# Altium schematic symbol library Sch_Comunes.SchLib: 15 symbols
Pins are listed as number, name and electrical type; pins without a type are passive.

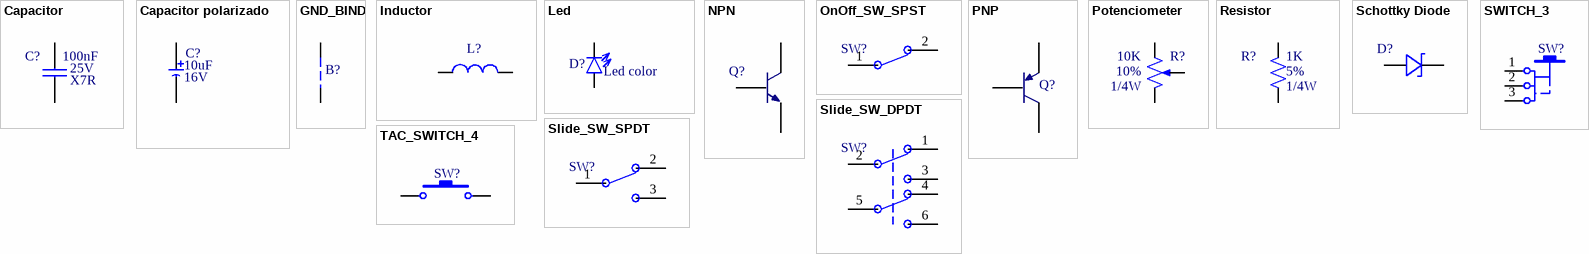
[diagram p0: symbols Capacitor to TAC_SWITCH_4]

## Capacitor
designator C?  Valor: 100nF  tension: 25V  tolerancia: X7R
Capacitor de placas paralelas; Encapsulado: 0805; Link: *; Fabricante: *
footprint C0603 (Capacitor SMD 0603)
footprint C1206 (Capacitor SMD 1206)
footprint C0805 (Capacitor SMD 0805)
pins: 1, 2

## Capacitor polarizado
designator C?  Valor: 10uF  tension: 16V
Capacitor polarizado; Link: *; Fabricante: *
footprint CAP_Electrolytic
pins: 1, 2

## GND_BIND
designator B?
Conecta distintos planos de masa por una pista
footprint Track_8mil (Track 8 mils)
pins: 1, 2

## Inductor
designator L?
Encapsulado: *; Proveedor: *; Cod. Proveedor: *; Valor: *; Link: *; Fabricante: *
footprint L0805 (Capacitor SMD 0805)
pins: 1, 2

## Led
designator D?, comment Led color
Encapsulado: *; Cod. Proveedor: *; Proveedor: *; Link: *; Color: *; Fabricante: *
footprint SMD_0805_Diodo (Diodo SMD)
pins: 1, 2

## NPN
designator Q?  (value not drawn)
Cod. Proveedor: *; Encapsulado: *; Proveedor: *; Link: *; Fabricante: *
footprint SOT23
pins: 1, 2, 3

## OnOff_SW_SPST
designator SW?  (value not drawn)
Cod. Proveedor: 360-1492-ND; Encapsulado: Montaje en panel, a presión; Proveedor: Digi-Key; Fabricante: NKK Switches; Link: https://www.digikey.com/product-detail/es/JWL11RA2A/360-1492-ND/379577?utm_campaign=buynow&WT.z_cid=ref_octopart_dkc_buynow&utm_medium=aggregator&curr=usd&site=us&utm_source=octopart
footprint SPST_TH_SW_Button_90º
pins: 1, 2

## PNP
designator Q?  (value not drawn)
Cod. Proveedor: *; Encapsulado: *; Proveedor: *; Link: *; Fabricante: *
footprint SOT23
pins: 1, 2, 3

## Potenciometer
designator R?, comment valor: 10K  Tolerancia: 10%  Potencia: 1/4W  (hidden comment: Potenciometro)
Link: *; Fabricante: *
footprint Header 3x1
pins: 1 Left, 2 Punto_medio, 3 Right

## Resistor
designator R?  Valor: 1K  Potencia: 1/4W  Tolerancia: 5%
Resistencia; Fabricante: *
footprint R0603 (Resistor SMD 0603)
footprint R0805 (Resistor SMD 0805)
footprint R1206 (Resistor SMD 1206)
pins: 1, 2

## Schottky Diode
designator D?
Cod. Proveedor: *; Encapsulado: *; Proveedor: *; Link: *; Fabricante: *
footprint SOD128
pins: 1, 2

## Slide_SW_DPDT
designator SW?  (value not drawn)
Cod. Proveedor: 710-452403012014; Proveedor: Mouser Electronics; Encapsulado: *; Link: *; Fabricante: *
footprint DPDT_SMD_Slide_90º
footprint DPDT_SMD_Slide
footprint DPDT_TH_Slide
pins: 1, 2, 3, 4, 5, 6

## Slide_SW_SPDT
designator SW?  (value not drawn)
Cod. Proveedor: *; Encapsulado: *; Link: *; Proveedor: *; Fabricante: *
footprint Slide_SW_SPDT
pins: 1, 2, 3

## SWITCH_3
designator SW?, comment TAC_SWITCH_4  (value not drawn)
Pulsador de 4 pines; Link: *; Fabricante: *
footprint SPDT_SMD_90º (TAC SWITCH de 4)
footprint SPDT_TH_Slide
pins: 1, 2, 3

## TAC_SWITCH_4
designator SW?  (value not drawn)
Pulsador de 4 pines; Link: *; Fabricante: *
footprint TAC_SW_4 (TAC SWITCH de 4)
pins: 1, 2